# EAGLE library part CD4017B (library rgb_cube)
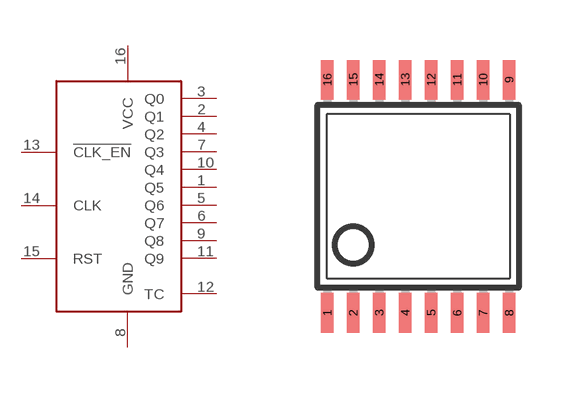
[diagram p69: symbol with the pads of TSSOP-16; footprint TSSOP-16]

Designator prefix -

## CD4017B  [TSSOP-16]
1  Q5
2  Q1
3  Q0
4  Q2
5  Q6
6  Q7
7  Q3
8  GND
9  Q8
10  Q4
11  Q9
12  TC
13  !CLK_EN
14  CLK
15  RST
16  VCC

## Footprint TSSOP-16 (pad centres in mm)
Thin Shrink Small Outline Plastic 16 MAX3223-MAX3243.pdf
smd 0.305 x 0.991: 1 -2.275,-2.918; 2 -1.625,-2.918; 3 -0.975,-2.918; 4 -0.325,-2.918; 5 0.325,-2.918; 6 0.975,-2.918; 7 1.625,-2.918; 8 2.275,-2.918; 9 2.275,2.918; 10 1.625,2.918; 11 0.975,2.918; 12 0.325,2.918; 13 -0.325,2.918; 14 -0.975,2.918; 15 -1.625,2.918; 16 -2.275,2.918